# Altium footprint library batteries.PcbLib: 1 footprints
Each footprint in its own frame and in the unit in brackets; x right, y up, seen from the top. Pads: shape width x height; smd on the part's side, far side on the other; paste and mask are expansions set on the pad; w line width, h text height; cw(c..) or ccw(c..) is an arc to the next point about the centre after c.
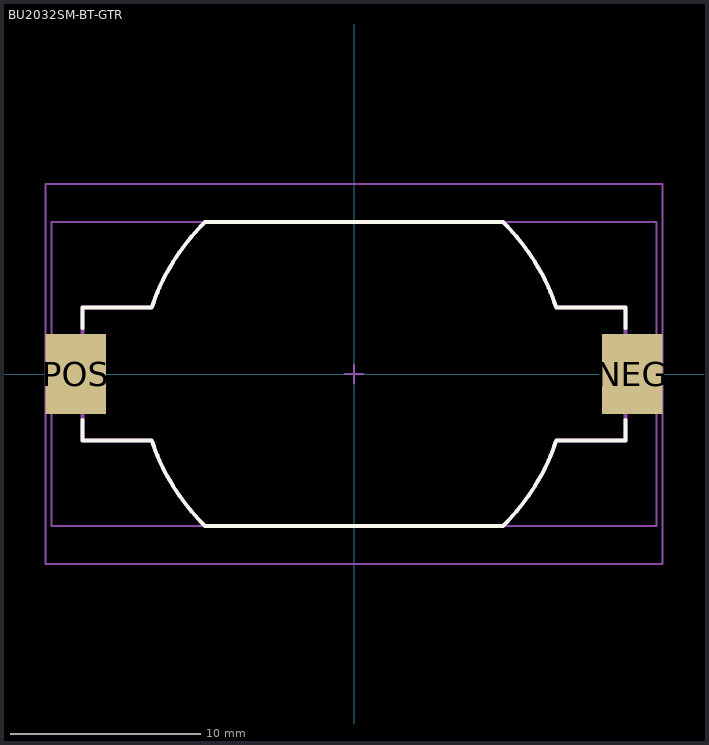
[diagram p0: the footprint, top view; thin cyan lines are the x and y axes]

## BU2032SM-BT-GTR [mm] "CR2032 battery holder"
height 5.2
pads (2):
  rect 3.2x4.2 smd: NEG(14.65,0) POS(-14.65,0)
Top Overlay:
  lines w0.2: -14.3,-2.42 -14.3,-3.5 -10.645,-3.5 -10.581,-3.681 -10.458,-4.024 -10.35,-4.287 -10.242,-4.538 -10.058,-4.937 -9.88,-5.282 -9.7,-5.594 -9.524,-5.892 -9.168,-6.436 -8.897,-6.809 -8.516,-7.277 -8.022,-7.82 -7.838,-8 ; -14.3,2.42 -14.3,3.5 -10.645,3.5 -10.581,3.681 -10.458,4.024 -10.35,4.287 -10.242,4.538 -10.058,4.937 -9.88,5.282 -9.7,5.594 -9.524,5.892 -9.168,6.436 -8.897,6.809 -8.516,7.277 -8.022,7.82 -7.838,8 ; -7.835,-8 7.835,-8 ; -7.835,8 7.835,8 ; 7.838,-8 8.022,-7.82 8.516,-7.277 8.897,-6.809 9.168,-6.436 9.524,-5.892 9.7,-5.594 9.88,-5.282 10.058,-4.937 10.242,-4.538 10.35,-4.287 10.458,-4.024 10.581,-3.681 10.645,-3.5 14.3,-3.5 14.3,-2.42 ; 7.838,8 8.022,7.82 8.516,7.277 8.897,6.809 9.168,6.436 9.524,5.892 9.7,5.594 9.88,5.282 10.058,4.937 10.242,4.538 10.35,4.287 10.458,4.024 10.581,3.681 10.645,3.5 14.3,3.5 14.3,2.42
Top Assembly:
  lines w0.2: -7.838,-8 -8.022,-7.82 -8.516,-7.277 -8.897,-6.809 -9.168,-6.436 -9.524,-5.892 -9.7,-5.594 -9.88,-5.282 -10.058,-4.937 -10.242,-4.538 -10.35,-4.287 -10.458,-4.024 -10.581,-3.681 -10.645,-3.5 -14.3,-3.5 -14.3,3.5 -10.645,3.5 -10.581,3.681 -10.458,4.024 -10.35,4.287 -10.242,4.538 -10.058,4.937 -9.88,5.282 -9.7,5.594 -9.524,5.892 -9.168,6.436 -8.897,6.809 -8.516,7.277 -8.022,7.82 -7.838,8 ; -7.835,-8 7.835,-8 ; -7.835,8 7.835,8 ; 7.838,-8 8.022,-7.82 8.516,-7.277 8.897,-6.809 9.168,-6.436 9.524,-5.892 9.7,-5.594 9.88,-5.282 10.058,-4.937 10.242,-4.538 10.35,-4.287 10.458,-4.024 10.581,-3.681 10.645,-3.5 14.3,-3.5 14.3,3.5 10.645,3.5 10.581,3.681 10.458,4.024 10.35,4.287 10.242,4.538 10.058,4.937 9.88,5.282 9.7,5.594 9.524,5.892 9.168,6.436 8.897,6.809 8.516,7.277 8.022,7.82 7.838,8
Top Component Center:
  lines w0.1: -0.5,0 0.5,0 ; 0,-0.5 0,0.5
Top Component Outline:
  lines w0.1: -15.93,-8 -15.93,8 15.93,8 15.93,-8 -15.93,-8
Top Courtyard:
  lines w0.1: -16.25,-10 -16.25,10 16.25,10 16.25,-10 -16.25,-10
Top Designator:
  text "''.Designator''" at 0,0 h2.5
Top Value:
  text "''.Comment''" at 0,0 h2.5
3D body "BU2032SM-BT-GTR.STEP": height 5.2, standoff 0, extent -15.93,-8 15.93,8
3D body "BATT-CR2032.STEP": height 4.65, standoff 1.45, extent -14.142,-14.142 14.142,14.142